# Altium footprint library ARK_3.5.PcbLib: 2 footprints
Each footprint in its own frame and in the unit in brackets; x right, y up, seen from the top. Pads: shape width x height; smd on the part's side, far side on the other; paste and mask are expansions set on the pad; w line width, h text height; cw(c..) or ccw(c..) is an arc to the next point about the centre after c.
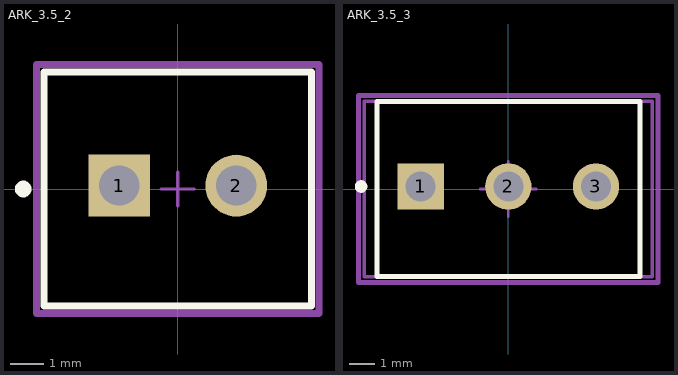
[diagram p0: the footprints below, top view; thin cyan lines are the x and y axes]

## ARK_3.5_2 [mm]
pads (2):
  rect 1.85x1.85 hole 1.2 paste-1000 mask+0: 1(-1.75,0.1)
  round 1.85 hole 1.2 paste-1000 mask+0: 2(1.75,0.1)
Top Overlay:
  circle w0.25: c-4.625,0 r0.125
  lines w0.2: -4,-3.5 4,-3.5 4,3.5 -4,3.5 -4,-3.5
Mechanical 10:
  lines w0.2: -4.225,-3.725 4.225,-3.725 4.225,3.725 -4.225,3.725 -4.225,-3.725
  text ".Designator" at 0,0 h1
Mechanical 12:
  lines w0.15: -4,-3.5 4,-3.5 4,3.5 -4,3.5 -4,-3.5
Mechanical 15:
  lines w0.1: -0.5,0 0.5,0 ; 0,-0.5 0,0.5
  lines w0.2: -4.225,-3.725 4.225,-3.725 4.225,3.725 -4.225,3.725 -4.225,-3.725
3D body "3dmodel.step": height 0.25, standoff 0, extent -4.225,-3.725 4.225,3.725

## ARK_3.5_3 [mm]
pads (3):
  rect 1.85x1.85 hole 1.2 paste-1000 mask+0: 1(-3.5,0.1)
  round 1.85 hole 1.2 paste-1000 mask+0: 2(0,0.1) 3(3.5,0.1)
Top Overlay:
  circle w0.25: c-5.875,0.1 r0.125
  lines w0.2: -5.25,-3.5 -5.25,3.5 5.25,3.5 5.25,-3.5 -5.25,-3.5
Mechanical 10:
  lines w0.2: -5.975,-3.725 -5.975,3.725 5.975,3.725 5.975,-3.725 -5.975,-3.725
  text ".Designator" at 0,0 h1
Mechanical 12:
  lines w0.15: -5.75,-3.5 -5.75,3.5 5.75,3.5 5.75,-3.5 -5.75,-3.5
Mechanical 15:
  lines w0.1: -1.118,0 1.118,0 ; 0,-1.118 0,1.118
  lines w0.2: -5.975,-3.725 -5.975,3.725 5.975,3.725 5.975,-3.725 -5.975,-3.725